# EAGLE library part BGA2771 (library custom)
MMIC Wideband Amplifier 0.1-3GHz - Gain = 21.4dB, NF = 4.5dB, VCC = 3-4V, P1dB = 12.1dBm
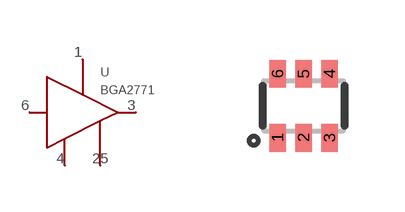
[diagram p37: symbol with the pads of SOT-363; footprint SOT-363]

Designator prefix U

## BGA2771  [SOT-363]
1  1-VCC
2  2-GND2
3  3-OUT
4  4-GND1
5  5-GND2
6  6-IN

## Footprint SOT-363 (pad centres in mm)
smd 0.42 x 0.7: 1 -0.65,-0.8; 2 0,-0.8; 3 0.65,-0.8; 4 0.65,0.8; 5 0,0.8; 6 -0.65,0.8